# Altium footprint library 653 1xx 131 822.PcbLib: 14 footprints
Each footprint in its own frame and in the unit in brackets; x right, y up, seen from the top. Pads: shape width x height; smd on the part's side, far side on the other; paste and mask are expansions set on the pad; w line width, h text height; cw(c..) or ccw(c..) is an arc to the next point about the centre after c.
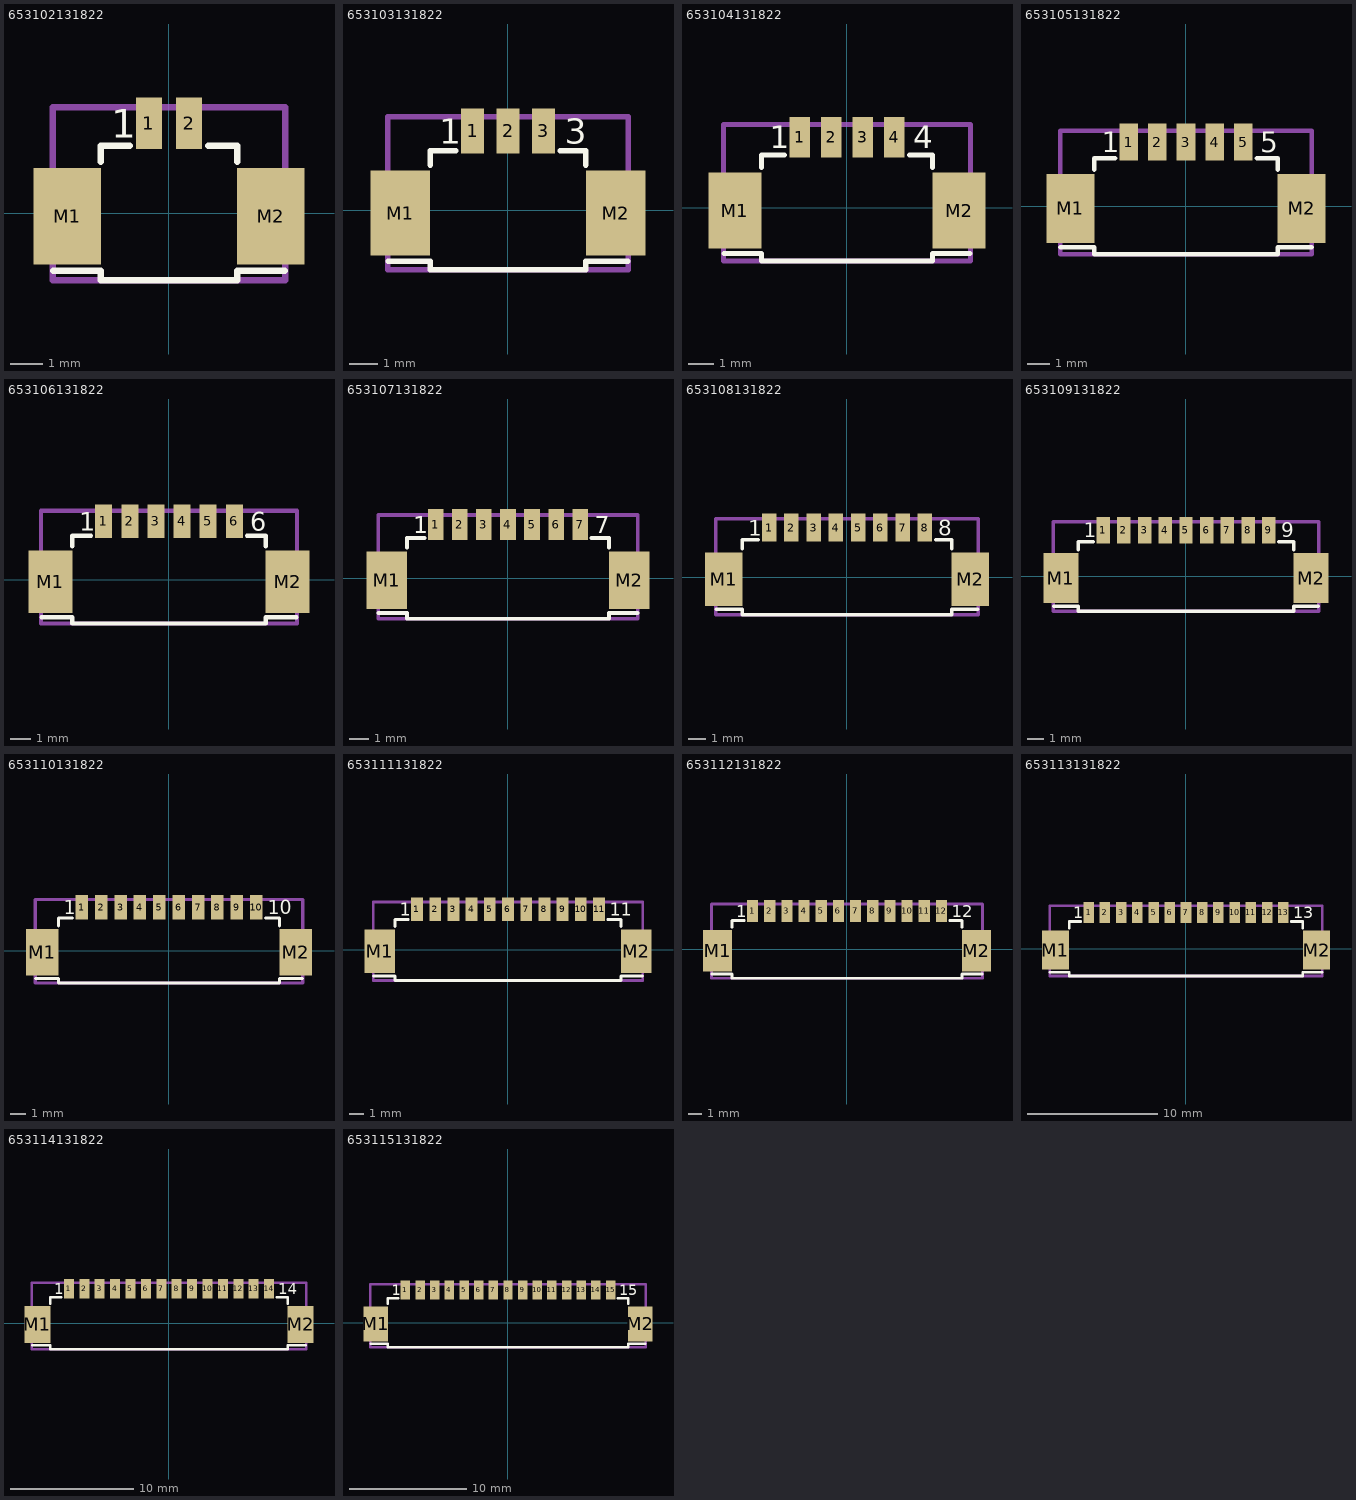
[diagram p0: the footprints below, top view; thin cyan lines are the x and y axes]

## 653102131822 [mm] "1.25mm SMT Male Horizontal Shrouded Header, 2p"
height 3.4
pads (4):
  rect 0.81x1.6 smd: 1(-0.625,2.8) 2(0.625,2.8)
  rect 2.1x3 smd: M1(-3.175,-0.1) M2(3.175,-0.1)
Top Overlay:
  lines w0.2: -3.605,-1.8 -2.125,-1.8 -2.125,-2.1 2.125,-2.1 2.125,-1.8 3.605,-1.8 ; -2.125,1.6 -2.125,2.1 -1.225,2.1 ; 1.225,2.1 2.125,2.1 2.125,1.6
  text "1" at -1.8,2.35 h0.89
Mechanical 13:
  lines w0.2: -3.625,-2.1 -3.625,3.3 3.625,3.3 3.625,-2.1 -3.625,-2.1
3D body "653102131822.stp": height 3.43, standoff 0.02, extent -3.625,-2.1 3.625,3.3

## 653103131822 [mm] "1.25mm SMT Male Horizontal Shrouded Header, 3p"
height 3.4
pads (5):
  rect 0.81x1.6 smd: 1(-1.25,2.8) 2(0,2.8) 3(1.25,2.8)
  rect 2.1x3 smd: M1(-3.8,-0.1) M2(3.8,-0.1)
Top Overlay:
  lines w0.2: -4.23,-1.8 -2.75,-1.8 -2.75,-2.1 2.75,-2.1 2.75,-1.8 4.23,-1.8 ; -2.75,1.6 -2.75,2.1 -1.85,2.1 ; 1.85,2.1 2.75,2.1 2.75,1.6
  text "3" at 2,2.35 h0.89
  text "1" at -2.425,2.35 h0.89
Mechanical 13:
  lines w0.2: -4.25,-2.1 -4.25,3.3 4.25,3.3 4.25,-2.1 -4.25,-2.1
3D body "653103131822.stp": height 3.43, standoff 0.02, extent -4.25,-2.1 4.25,3.3

## 653104131822 [mm] "1.25mm SMT Male Horizontal Shrouded Header, 4p"
height 3.4
pads (6):
  rect 0.81x1.6 smd: 1(-1.875,2.8) 2(-0.625,2.8) 3(0.625,2.8) 4(1.875,2.8)
  rect 2.1x3 smd: M1(-4.425,-0.1) M2(4.425,-0.1)
Top Overlay:
  lines w0.2: -4.855,-1.8 -3.375,-1.8 -3.375,-2.1 3.375,-2.1 3.375,-1.8 4.855,-1.8 ; -3.375,1.6 -3.375,2.1 -2.475,2.1 ; 2.475,2.1 3.375,2.1 3.375,1.6
  text "1" at -3.05,2.35 h0.89
  text "4" at 2.625,2.35 h0.89
Mechanical 13:
  lines w0.2: -4.875,-2.1 -4.875,3.3 4.875,3.3 4.875,-2.1 -4.875,-2.1
3D body "653104131822.stp": height 3.43, standoff 0.02, extent -4.875,-2.1 4.875,3.3

## 653105131822 [mm] "1.25mm SMT Male Horizontal Shrouded Header, 5p"
height 3.4
pads (7):
  rect 0.81x1.6 smd: 1(-2.5,2.8) 2(-1.25,2.8) 3(0,2.8) 4(1.25,2.8) 5(2.5,2.8)
  rect 2.1x3 smd: M1(-5.05,-0.1) M2(5.05,-0.1)
Top Overlay:
  lines w0.2: -5.48,-1.8 -4,-1.8 -4,-2.1 4,-2.1 4,-1.8 5.48,-1.8 ; -4,1.6 -4,2.1 -3.1,2.1 ; 3.1,2.1 4,2.1 4,1.6
  text "1" at -3.675,2.35 h0.89
  text "5" at 3.25,2.35 h0.89
Mechanical 13:
  lines w0.2: -5.5,-2.1 -5.5,3.3 5.5,3.3 5.5,-2.1 -5.5,-2.1
3D body "653105131822.stp": height 3.43, standoff 0.02, extent -5.5,-2.1 5.5,3.3

## 653106131822 [mm] "1.25mm SMT Male Horizontal Shrouded Header, 6p"
height 3.4
pads (8):
  rect 0.81x1.6 smd: 1(-3.125,2.8) 2(-1.875,2.8) 3(-0.625,2.8) 4(0.625,2.8) 5(1.875,2.8) 6(3.125,2.8)
  rect 2.1x3 smd: M1(-5.675,-0.1) M2(5.675,-0.1)
Top Overlay:
  lines w0.2: -6.105,-1.8 -4.625,-1.8 -4.625,-2.1 4.625,-2.1 4.625,-1.8 6.105,-1.8 ; -4.625,1.6 -4.625,2.1 -3.725,2.1 ; 3.725,2.1 4.625,2.1 4.625,1.6
  text "1" at -4.3,2.35 h0.89
  text "6" at 3.875,2.35 h0.89
Mechanical 13:
  lines w0.2: -6.125,-2.1 6.125,-2.1 6.125,3.3 -6.125,3.3 -6.125,-2.1
3D body "653106131822.stp": height 3.43, standoff 0.02, extent -6.125,-2.1 6.125,3.3

## 653107131822 [mm] "1.25mm SMT Male Horizontal Shrouded Header, 7p"
height 3.4
pads (9):
  rect 0.81x1.6 smd: 1(-3.75,2.8) 2(-2.5,2.8) 3(-1.25,2.8) 4(0,2.8) 5(1.25,2.8) 6(2.5,2.8) 7(3.75,2.8)
  rect 2.1x3 smd: M1(-6.3,-0.1) M2(6.3,-0.1)
Top Overlay:
  lines w0.2: -6.73,-1.8 -5.25,-1.8 -5.25,-2.1 5.25,-2.1 5.25,-1.8 6.73,-1.8 ; -5.25,1.6 -5.25,2.1 -4.35,2.1 ; 4.35,2.1 5.25,2.1 5.25,1.6
  text "1" at -4.925,2.35 h0.89
  text "7" at 4.5,2.35 h0.89
Mechanical 13:
  lines w0.2: -6.75,-2.1 -6.75,3.3 6.75,3.3 6.75,-2.1 -6.75,-2.1
3D body "653107131822.stp": height 3.43, standoff 0.02, extent -6.75,-2.1 6.75,3.3

## 653108131822 [mm] "1.25mm SMT Male Horizontal Shrouded Header, 8p"
height 3.4
pads (10):
  rect 0.81x1.6 smd: 1(-4.375,2.8) 2(-3.125,2.8) 3(-1.875,2.8) 4(-0.625,2.8) 5(0.625,2.8) 6(1.875,2.8) 7(3.125,2.8) 8(4.375,2.8)
  rect 2.1x3 smd: M1(-6.925,-0.1) M2(6.925,-0.1)
Top Overlay:
  lines w0.2: -7.355,-1.8 -5.875,-1.8 -5.875,-2.1 5.875,-2.1 5.875,-1.8 7.355,-1.8 ; -5.875,1.6 -5.875,2.1 -4.975,2.1 ; 4.975,2.1 5.875,2.1 5.875,1.6
  text "1" at -5.55,2.35 h0.89
  text "8" at 5.125,2.35 h0.89
Mechanical 13:
  lines w0.2: -7.375,-2.1 7.375,-2.1 7.375,3.3 -7.375,3.3 -7.375,-2.1
3D body "653108131822.stp": height 3.43, standoff 0.02, extent -7.375,-2.1 7.375,3.3

## 653109131822 [mm] "1.25mm SMT Male Horizontal Shrouded Header, 9p"
height 3.4
pads (11):
  rect 0.81x1.6 smd: 1(-5,2.8) 2(-3.75,2.8) 3(-2.5,2.8) 4(-1.25,2.8) 5(0,2.8) 6(1.25,2.8) 7(2.5,2.8) 8(3.75,2.8) 9(5,2.8)
  rect 2.1x3 smd: M1(-7.55,-0.1) M2(7.55,-0.1)
Top Overlay:
  lines w0.2: -7.98,-1.8 -6.5,-1.8 -6.5,-2.1 6.5,-2.1 6.5,-1.8 7.98,-1.8 ; -6.5,1.6 -6.5,2.1 -5.6,2.1 ; 5.6,2.1 6.5,2.1 6.5,1.6
  text "1" at -6.175,2.35 h0.89
  text "9" at 5.75,2.35 h0.89
Mechanical 13:
  lines w0.2: -8,-2.1 -8,3.3 8,3.3 8,-2.1 -8,-2.1
3D body "653109131822.stp": height 3.43, standoff 0.02, extent -8,-2.1 8,3.3

## 653110131822 [mm] "1.25mm SMT Male Horizontal Shrouded Header, 10p"
height 3.4
pads (12):
  rect 0.81x1.6 smd: 1(-5.625,2.8) 2(-4.375,2.8) 3(-3.125,2.8) 4(-1.875,2.8) 5(-0.625,2.8) 6(0.625,2.8) 7(1.875,2.8) 8(3.125,2.8) 9(4.375,2.8) 10(5.625,2.8)
  rect 2.1x3 smd: M1(-8.175,-0.1) M2(8.175,-0.1)
Top Overlay:
  lines w0.2: -8.605,-1.8 -7.125,-1.8 -7.125,-2.1 7.125,-2.1 7.125,-1.8 8.605,-1.8 ; -7.125,1.6 -7.125,2.1 -6.225,2.1 ; 6.225,2.1 7.125,2.1 7.125,1.6
  text "1" at -6.8,2.35 h0.89
  text "10" at 6.375,2.35 h0.89
Mechanical 13:
  lines w0.2: -8.625,-2.1 8.625,-2.1 8.625,3.3 -8.625,3.3 -8.625,-2.1
3D body "653110131822.stp": height 3.43, standoff 0.02, extent -8.625,-2.1 8.625,3.3

## 653111131822 [mm] "1.25mm SMT Male Horizontal Shrouded Header, 11p"
height 3.4
pads (13):
  rect 0.81x1.6 smd: 1(-6.25,2.8) 2(-5,2.8) 3(-3.75,2.8) 4(-2.5,2.8) 5(-1.25,2.8) 6(0,2.8) 7(1.25,2.8) 8(2.5,2.8) 9(3.75,2.8) 10(5,2.8) 11(6.25,2.8)
  rect 2.1x3 smd: M1(-8.8,-0.1) M2(8.8,-0.1)
Top Overlay:
  lines w0.2: -9.23,-1.8 -7.75,-1.8 -7.75,-2.1 7.75,-2.1 7.75,-1.8 9.23,-1.8 ; -7.75,1.6 -7.75,2.1 -6.85,2.1 ; 6.85,2.1 7.75,2.1 7.75,1.6
  text "1" at -7.425,2.35 h0.89
  text "11" at 7,2.35 h0.89
Mechanical 13:
  lines w0.2: -9.25,-2.1 -9.25,3.3 9.25,3.3 9.25,-2.1 -9.25,-2.1
3D body "653111131822.stp": height 3.43, standoff 0.02, extent -9.25,-2.1 9.25,3.3

## 653112131822 [mm] "1.25mm SMT Male Horizontal Shrouded Header, 12p"
height 3.4
pads (14):
  rect 0.81x1.6 smd: 1(-6.875,2.8) 2(-5.625,2.8) 3(-4.375,2.8) 4(-3.125,2.8) 5(-1.875,2.8) 6(-0.625,2.8) 7(0.625,2.8) 8(1.875,2.8) 9(3.125,2.8) 10(4.375,2.8) 11(5.625,2.8) 12(6.875,2.8)
  rect 2.1x3 smd: M1(-9.425,-0.1) M2(9.425,-0.1)
Top Overlay:
  lines w0.2: -9.855,-1.8 -8.375,-1.8 -8.375,-2.1 8.375,-2.1 8.375,-1.8 9.855,-1.8 ; -8.375,1.6 -8.375,2.1 -7.475,2.1 ; 7.475,2.1 8.375,2.1 8.375,1.6
  text "1" at -8.05,2.35 h0.89
  text "12" at 7.625,2.35 h0.89
Mechanical 13:
  lines w0.2: -9.875,-2.1 9.875,-2.1 9.875,3.3 -9.875,3.3 -9.875,-2.1
3D body "653112131822.stp": height 3.43, standoff 0.02, extent -9.875,-2.1 9.875,3.3

## 653113131822 [mm] "1.25mm SMT Male Horizontal Shrouded Header, 13p"
height 3.4
pads (15):
  rect 0.81x1.6 smd: 1(-7.5,2.8) 2(-6.25,2.8) 3(-5,2.8) 4(-3.75,2.8) 5(-2.5,2.8) 6(-1.25,2.8) 7(0,2.8) 8(1.25,2.8) 9(2.5,2.8) 10(3.75,2.8) 11(5,2.8) 12(6.25,2.8) 13(7.5,2.8)
  rect 2.1x3 smd: M1(-10.05,-0.1) M2(10.05,-0.1)
Top Overlay:
  lines w0.2: -10.48,-1.8 -9,-1.8 -9,-2.1 9,-2.1 9,-1.8 10.48,-1.8 ; -9,1.6 -9,2.1 -8.1,2.1 ; 8.1,2.1 9,2.1 9,1.6
  text "1" at -8.675,2.35 h0.89
  text "13" at 8.25,2.35 h0.89
Mechanical 13:
  lines w0.2: -10.5,-2.1 -10.5,3.3 10.5,3.3 10.5,-2.1 -10.5,-2.1
3D body "653113131822.stp": height 3.43, standoff 0.02, extent -10.5,-2.1 10.5,3.3

## 653114131822 [mm] "1.25mm SMT Male Horizontal Shrouded Header, 14p"
height 3.4
pads (16):
  rect 0.81x1.6 smd: 1(-8.125,2.8) 2(-6.875,2.8) 3(-5.625,2.8) 4(-4.375,2.8) 5(-3.125,2.8) 6(-1.875,2.8) 7(-0.625,2.8) 8(0.625,2.8) 9(1.875,2.8) 10(3.125,2.8) 11(4.375,2.8) 12(5.625,2.8) 13(6.875,2.8) 14(8.125,2.8)
  rect 2.1x3 smd: M1(-10.675,-0.1) M2(10.675,-0.1)
Top Overlay:
  lines w0.2: -11.105,-1.8 -9.625,-1.8 -9.625,-2.1 9.625,-2.1 9.625,-1.8 11.105,-1.8 ; -9.625,1.6 -9.625,2.1 -8.725,2.1 ; 8.725,2.1 9.625,2.1 9.625,1.6
  text "1" at -9.3,2.35 h0.89
  text "14" at 8.875,2.35 h0.89
Mechanical 13:
  lines w0.2: -11.125,-2.1 -11.125,3.3 11.125,3.3 11.125,-2.1 -11.125,-2.1
3D body "653114131822.stp": height 3.43, standoff 0.02, extent -11.125,-2.1 11.125,3.3

## 653115131822 [mm] "1.25mm SMT Male Horizontal Shrouded Header, 15p"
height 3.4
pads (17):
  rect 0.81x1.6 smd: 1(-8.75,2.8) 2(-7.5,2.8) 3(-6.25,2.8) 4(-5,2.8) 5(-3.75,2.8) 6(-2.5,2.8) 7(-1.25,2.8) 8(0,2.8) 9(1.25,2.8) 10(2.5,2.8) 11(3.75,2.8) 12(5,2.8) 13(6.25,2.8) 14(7.5,2.8) 15(8.75,2.8)
  rect 2.1x3 smd: M1(-11.3,-0.1) M2(11.3,-0.1)
Top Overlay:
  lines w0.2: -11.73,-1.8 -10.25,-1.8 -10.25,-2.1 10.25,-2.1 10.25,-1.8 11.73,-1.8 ; -10.25,1.6 -10.25,2.1 -9.35,2.1 ; 9.35,2.1 10.25,2.1 10.25,1.6
  text "1" at -9.925,2.35 h0.89
  text "15" at 9.5,2.35 h0.89
Mechanical 13:
  lines w0.2: -11.75,-2.1 11.75,-2.1 11.75,3.3 -11.75,3.3 -11.75,-2.1
3D body "653115131822.stp": height 3.43, standoff 0.02, extent -11.75,-2.1 11.75,3.3